# Altium schematic symbol library Electro_Mechanical.SchLib: 27 symbols
Pins are listed as number, name and electrical type; pins without a type are passive.

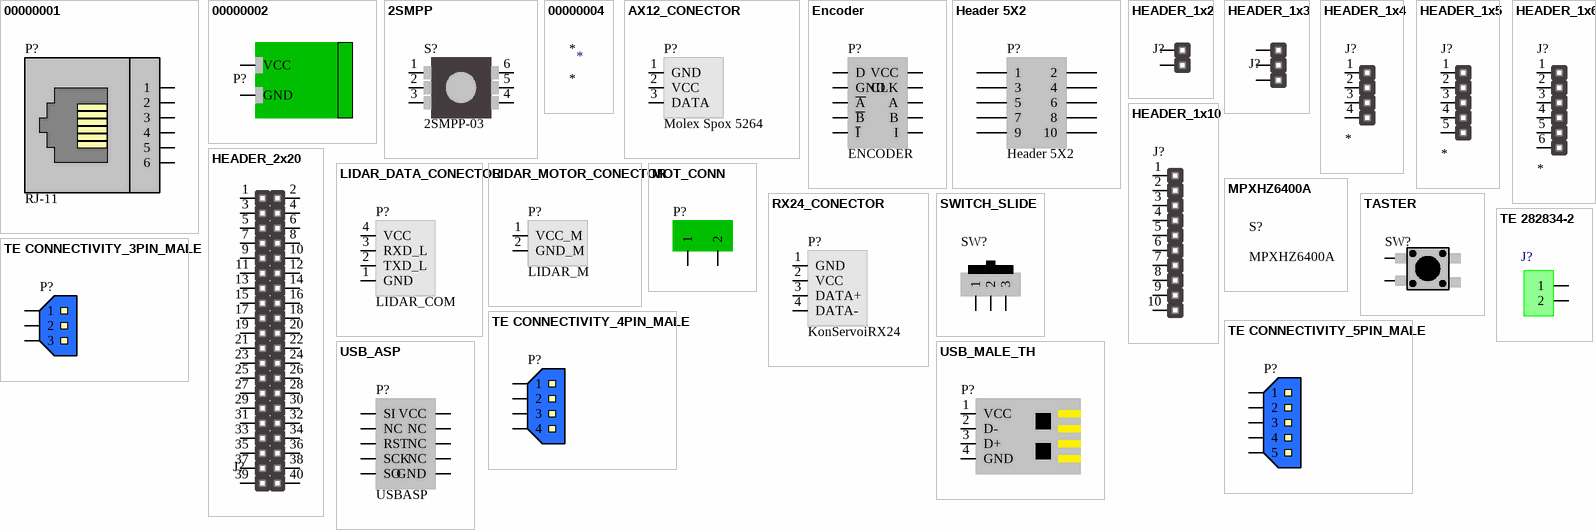
[diagram p0: symbols 00000001 to USB_MALE_TH]

## 00000001
designator P?, comment RJ-11
CONN MOD JACK 6P4C R/A UNSHLD; Manufacturer Part Number: 0955012641; Type: RJ-11
footprint RJ11-6N-B (RJ11 MODULAR JACK 6 POSITION, 1 PORT)
pins: 1, 2, 3, 4, 5, 6

## 00000002
designator P?, comment 2EDGRC-5.08-02P-14-00A(H)  (value not drawn)
TERM BLOCK HDR 2POS 90DEG 5.08MM; Suplier: TME; Manufacturer Part Number: 2EDGRC-5.08-02P-14-00A(H); Suplier Product Link: https://www.tme.eu/en/details/2edgrc5.08-2p14/pluggable-terminal-blocks/degson-electronics/2edgrc-508-02p-14-00ah/; Price: 0.1304
footprint PWR_Con
pins: 1 GND, 2 VCC

## 2SMPP
designator S?, comment 2SMPP-03
OMRON VACUUM SENSOR +-50kPa
footprint 2SPMM
pins: 1 VOUT+, 2 NC, 3 GND, 4 VOUT-, 5 N-SUB, 6 ICC

## 00000004
designator *
footprint PI_CAN_Board

## AX12_CONECTOR
designator P?, comment Molex Spox 5264
KonServoiAX12; Manufacturer Part Number 1: 22035045; Order Code 1: 1104204; Manufacturer: Molex; Supplier 1: uk.farnell.com; Price 1: £0.104
footprint AX12_Molex Spox 5264 (2.50 mm)
pins: 1 GND, 2 VCC, 3 DATA

## Encoder
designator P?, comment ENCODER
Maxon ENCODER Connector; LatestRevisionDate: 17-Jul-2002; LatestRevisionNote: Re-released for DXP Platform.; Publisher: Altium Limited; Manufacturer Part Number: ENCODER
footprint CONNECTOR_2X5 (Connector; 5x2 Position)
pins: 1 D, 2 VCC, 3 GND, 4 CLK, 5 ~{A}, 6 A, 7 ~{B}, 8 B, 9 ~{I}, 10 I

## Header 5X2
designator P?
Header, 5-Pin, Dual row; LatestRevisionDate: 17-Jul-2002; LatestRevisionNote: Re-released for DXP Platform.; Publisher: Altium Limited
footprint CONNECTOR_2X5 (Connector; 5x2 Position)
pins: 1, 2, 3, 4, 5, 6, 7, 8, 9, 10

## HEADER_1x2
designator J?  (value not drawn)
Manufacturer Part Number: *
footprint HM1x2 (Single row pin header 1x2, 2.54mm)
pins: 1, 2 1

## HEADER_1x3
designator J?  (value not drawn)
Manufacturer Part Number: *
footprint HM1X3 (Contact Mating Length-6.00mm)
pins: 1, 2, 3

## HEADER_1x4
designator J?
footprint HM1X4 (Contact Mating Length-6.00mm)
pins: 1, 2 1, 3 1, 4

## HEADER_1x5
designator J?
footprint HM1X5 (Contact Mating Length-6.00mm)
pins: 1, 2, 3, 4, 5

## HEADER_1x6
designator J?
footprint HM1X6 (Contact Mating Length-6.00mm)
pins: 1, 2, 3, 4, 5, 6

## HEADER_1x10
designator J?  (value not drawn)
footprint HM1X10
pins: 1, 2 1, 3 1, 4 1, 5 1, 6 1, 7 1, 8 1, 9 1, 10 1

## HEADER_2x20
designator J?  (value not drawn)
footprint HM2X20 (Double row pin header 2x20, 2.54mm)
pins: 1, 2, 3, 4, 5, 6, 7, 8, 9, 10, 11, 12, 13, 14, 15, 16, 17, 18, 19, 20, 21, 22, 23, 24, 25, 26, 27, 28, 29, 30, 31, 32, 33, 34, 35, 36, 37, 38, 39, 40

## LIDAR_DATA_CONECTOR
designator P?, comment LIDAR_COM
LIDAR; Price 1: £0.104
footprint LIDAR_DATA_CONECTOR (Male Vertical Shrouded Header - 04p 1 row)
pins: 1 GND, 2 TXD_L, 3 RXD_L, 4 VCC

## LIDAR_MOTOR_CONECTOR
designator P?, comment LIDAR_M
LIDAR; Price 1: £0.104
footprint LIDAR_MOTOR_CONECTOR (Footprint not found)
pins: 1 VCC_M, 2 GND_M

## MOT_CONN
designator P?  (value not drawn)
CONNECTOR FOR MOTOR OUTPUT; Manufacturer Part Number: *
footprint MOTOR_CON
pins: 1, 2

## MPXHZ6400A
designator S?
Manufacturer Part Number: MPXHZ6400A

## RX24_CONECTOR
designator P?, comment KonServoiRX24
Molex Spox 5264; Manufacturer Part Number 1: 22035045; Order Code 1: 1104204; Manufacturer: Molex; Supplier 1: uk.farnell.com; Price 1: £0.104
footprint RX24_Molex Spox 5264 (2.50 mm)
pins: 1 GND, 2 VCC, 3 DATA+, 4 DATA-

## SWITCH_SLIDE
designator SW?, comment 09-03290.01  (value not drawn)
Small Slide Switch ON-OFF; Manufacturer Part Number: 09-03290.01
footprint SWITCH_SLIDE
pins: 1, 2, 3

## TASTER
designator SW?  (value not drawn)
footprint TASTER_SMD
pins: 1, 2

## TE 282834-2
designator J?, comment 282834-2  (value not drawn)
CONNECTOR FOR PUMP; Number_of_Positions: 2; MF: TE Connectivity; Centerline_Pitch: 2.54 mm[.1 in]; MP: 282834-2; TE_purchase_URL: https://www.te.com/usa-en/product-282834-2.html?te_bu=Cor&te_type=disp&te_campaign=seda_glo_cor-seda-global-disp-prtnr-fy19-seda-model-bom-cta_sma-317_1&elqCampaignId=32493; Digi-Key_Purchase_URL: https://www.digikey.rs/product-detail/en/te-connectivity-amp-connectors/282834-2/A98333-ND/1150135?utm_source=snapeda&utm_medium=aggregator&utm_campaign=symbol; SnapEDA_Link: https://www.snapeda.com/parts/282834-2/TE%20Connectivity%20AMP%20Connectors/view-part/431057/?ref=snap; EU_RoHS_Compliance: Compliant with Exemptions; Digi-Key_Part_Number: A98333-ND; Package: None; Value: *
footprint CONNECTOR_282834-2 (Low Power MOSFET)
pins: 1, 2

## TE CONNECTIVITY_3PIN_MALE
designator P?  (value not drawn)
BLUE_3PIN_CONECTOR; Manufacturer: TE CONNECTIVITY / AMP; Manufacturer Part Number 1: 281695-3; Order Code 1: 1205983; Price 1: £0.403; Supplier 1: uk.farnell.com
footprint TE CONNECTIVITY_3PIN_MALE (BLUE_3PIN_CONECTOR)
pins: 1, 2, 3

## TE CONNECTIVITY_4PIN_MALE
designator P?  (value not drawn)
BLUE_4PIN_CONECTOR; Manufacturer: TE CONNECTIVITY / AMP; Manufacturer Part Number 1: 281695-3; Order Code 1: 1205983; Price 1: £0.403; Supplier 1: uk.farnell.com
footprint TE CONNECTIVITY_4PIN_MALE (BLUE_4PIN_CONECTOR)
pins: 1, 2, 3, 4

## TE CONNECTIVITY_5PIN_MALE
designator P?  (value not drawn)
BLUE_5PIN_CONECTOR; Manufacturer: TE CONNECTIVITY / AMP; Manufacturer Part Number 1: 281695-3; Order Code 1: 1205983; Price 1: £0.403; Supplier 1: uk.farnell.com
footprint TE CONNECTIVITY_5PIN_MALE (BLUE_5PIN_CONECTOR)
pins: 1, 2, 3, 4, 5

## USB_ASP
designator P?, comment USBASP
USB_ASP Programator Connector; LatestRevisionDate: 17-Jul-2002; LatestRevisionNote: Re-released for DXP Platform.; Publisher: Altium Limited; Manufacturer Part Number: USBASP
footprint CONNECTOR_2X5 (Connector; 5x2 Position)
pins: 1 SI, 2 VCC, 3 NC, 4 NC, 5 RST, 6 NC, 7 SCK, 8 NC, 9 SO, 10 GND

## USB_MALE_TH
designator P?  (value not drawn)
USB Connector
footprint USB_A_M_PCB_TH
pins: 1 VCC, 2 D-, 3 D+, 4 GND